# Altium schematic symbol library PF_Bottom_PWM.SchLib: 3 symbols
Pins are listed as number, name and electrical type; pins without a type are passive.

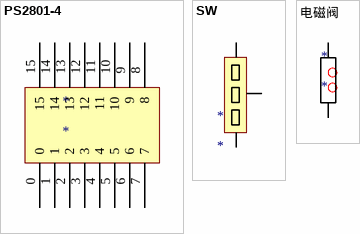
[diagram p0: symbols PS2801-4 to 电磁阀]

## PS2801-4
designator *
footprint PS2801-4 (光电耦合器)
pins: 0, 1, 2, 3, 4, 5, 6, 7, 8, 9, 10, 11, 12, 13, 14, 15

## SW
designator *
pins: 1, 2, 3

## 电磁阀
designator *
pins: 1, 2